# EAGLE library part 2X6-SMD (library badge)
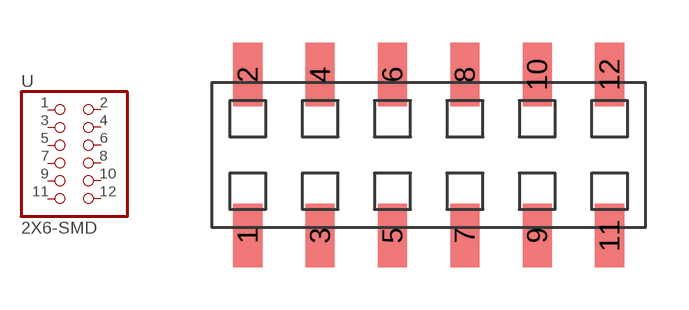
[diagram p3: symbol with the pads of SMD2X6; footprint SMD2X6]

Designator prefix -

## 2X6-SMD  [SMD2X6]
1  1  pas
2  2  pas
3  3  pas
4  4  pas
5  5  pas
6  6  pas
7  7  pas
8  8  pas
9  9  pas
10  10  pas
11  11  pas
12  12  pas

## Footprint SMD2X6 (pad centres in mm)
smd 1.02 x 2.22: 1 -6.35,-2.825; 2 -6.35,2.825; 3 -3.81,-2.825; 4 -3.81,2.825; 5 -1.27,-2.825; 6 -1.27,2.825; 7 1.27,-2.825; 8 1.27,2.825; 9 3.81,-2.825; 10 3.81,2.825; 11 6.35,-2.825; 12 6.35,2.825